# Altium footprint library Narwhal_main_FIX.PcbLib: 27 footprints (part 1 of 2)
Each footprint in its own frame and in the unit in brackets; x right, y up, seen from the top. Pads: shape width x height; smd on the part's side, far side on the other; paste and mask are expansions set on the pad; w line width, h text height; cw(c..) or ccw(c..) is an arc to the next point about the centre after c.
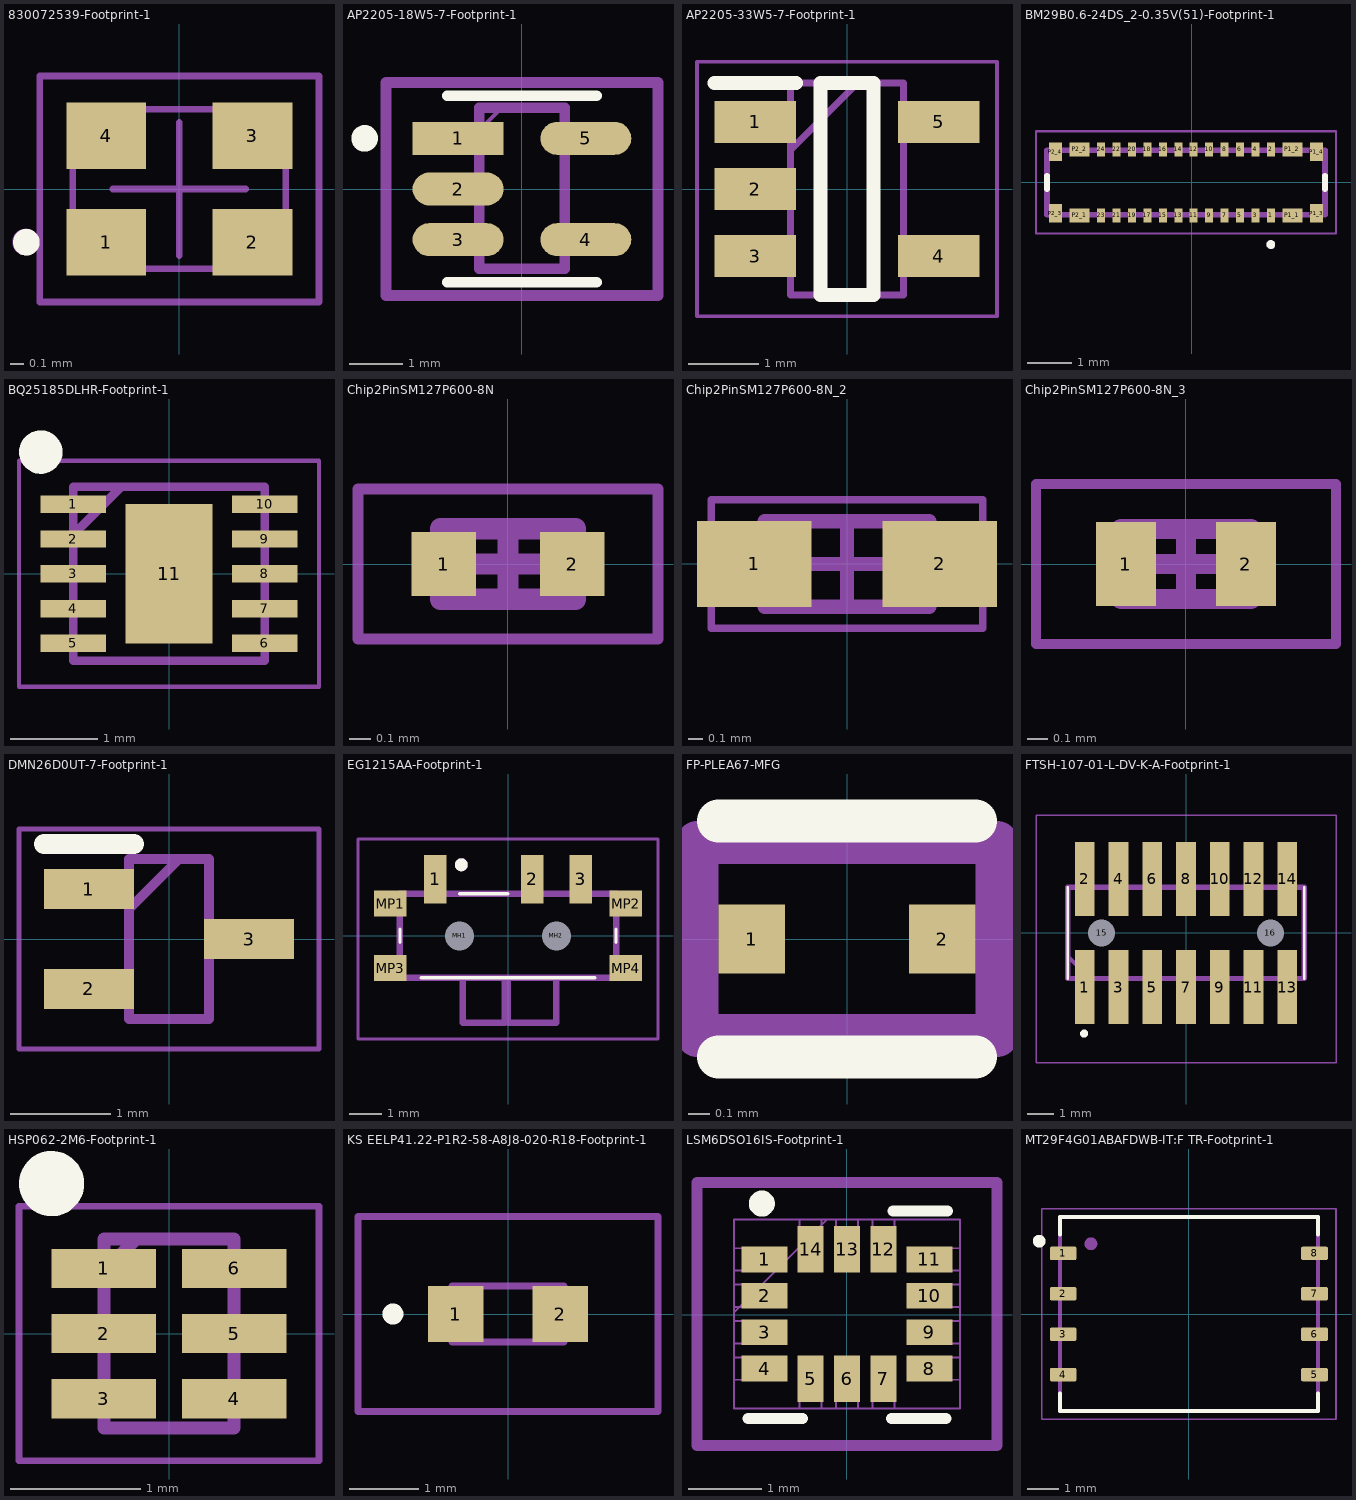
[diagram p0: the footprints below, top view; thin cyan lines are the x and y axes]

## 830072539-Footprint-1 [mm]
pads (4):
  rect 0.6x0.5 smd: 1(-0.55,-0.4) 2(0.55,-0.4) 3(0.55,0.4) 4(-0.55,0.4)
Top Overlay:
  circle w0.1: c-1.15,-0.4 r0.05
Top Assembly:
  circle w0.1: c-1.155,-0.398 r0.05
  lines w0.05: -0.8,-0.6 -0.8,0.6 0.8,0.6 0.8,-0.6 -0.8,-0.6
Top Courtyard:
  lines w0.05: -0.5,0 0.5,0 ; 0,-0.5 0,0.5 ; -1.05,-0.85 -1.05,0.85 1.05,0.85 1.05,-0.85 -1.05,-0.85
Top 3D Body:
  lines w0.05: -0.8,-0.6 -0.8,0.6 0.8,0.6 0.8,-0.6 -0.8,-0.6
Top Designator:
  text ".Designator" at -0.083,1.25 h0.25
3D body "FrqXTAL_IQXC-26.stp": height 0.4, standoff 0, extent -0.8,-0.6 0.8,0.6

## AP2205-18W5-7-Footprint-1 [mm]
pads (5):
  rect 1.707x0.616 smd paste+0 mask+0: 1(-1.201,0.95)
  rrect100% 1.707x0.616 smd paste+0 mask+0: 2(-1.201,0) 3(-1.201,-0.95) 4(1.201,-0.95) 5(1.201,0.95)
Top Overlay:
  circle w0.25: c-2.954,0.95 r0.125
  lines w0.2: -1.4,-1.75 1.4,-1.75 ; -1.4,1.75 1.4,1.75
Top Assembly:
  lines w0.013: -0.762,1.016 -0.762,1.143
  lines w0.076: -0.762,1.143 -0.381,1.524
  lines w0.2: -0.8,-1.5 -0.8,1.524 0.8,1.524 0.8,-1.5 -0.8,-1.5
Top Courtyard:
  lines w0.2: -2.554,-2 2.554,-2 2.554,2 -2.554,2 -2.554,-2
Top Designator:
  text ".Designator" at -1.35,-0.183 h0.25
3D body "IC_Diodes_Inc_AP2127K-3_3TRG1_eec.STEP": height 1.45, standoff 0, extent -1.4,-1.47 1.4,1.45

## AP2205-33W5-7-Footprint-1 [mm]
pads (5):
  rect 1.15x0.6 smd: 1(-1.3,0.95) 2(-1.3,0) 3(-1.3,-0.95) 4(1.3,-0.95) 5(1.3,0.95)
Top Overlay:
  lines w0.2: -1.875,1.5 -0.725,1.5 ; -0.375,-1.5 0.375,-1.5 0.375,1.5 -0.375,1.5 -0.375,-1.5
Top Assembly:
  lines w0.1: -0.8,0.55 0.15,1.5 ; -0.8,-1.5 0.8,-1.5 0.8,1.5 -0.8,1.5 -0.8,-1.5
Top Courtyard:
  lines w0.05: -2.125,-1.8 2.125,-1.8 2.125,1.8 -2.125,1.8 -2.125,-1.8
Top Designator:
  text ".Designator" at -0.25,-0.067 h0.25
3D body "AP2205-33W5-7.stp": height 1.4, standoff 0, extent -1.387,-1.524 1.463,1.476

## BM29B0.6-24DS_2-0.35V(51)-Footprint-1 [mm]
pads (32):
  rect 0.18x0.32 smd mask+0.05: 1(1.798,-0.75) 2(1.798,0.75) 3(1.448,-0.75) 4(1.448,0.75) 5(1.098,-0.75) 6(1.098,0.75) 7(0.748,-0.75) 8(0.748,0.75) 9(0.398,-0.75) 10(0.398,0.75) 11(0.048,-0.75) 12(0.048,0.75) 13(-0.302,-0.75) 14(-0.302,0.75) 15(-0.652,-0.75) 16(-0.652,0.75) 17(-1.002,-0.75) 18(-1.002,0.75) 19(-1.352,-0.75) 20(-1.352,0.75) 21(-1.702,-0.75) 22(-1.702,0.75) 23(-2.052,-0.75) 24(-2.052,0.75)
  rect 0.46x0.32 smd mask+0.05: P1_1(2.288,-0.75) P1_2(2.288,0.75) P2_1(-2.542,-0.75) P2_2(-2.542,0.75)
  rect 0.3x0.42 smd: P1_3(2.838,-0.7) P1_4(2.838,0.7) P2_3(-3.092,-0.7) P2_4(-3.092,0.7)
Top Overlay:
  circle w0.1: c1.798,-1.41 r0.05
  lines w0.127: -3.282,-0.15 -3.282,0.15 ; 3.028,-0.15 3.028,0.15
Top Assembly:
  circle w0.1: c1.798,-1.41 r0.05
  lines w0.127: -3.282,-0.73 -3.282,0.73 3.028,0.73 3.028,-0.73 -3.282,-0.73
Top Courtyard:
  lines w0.05: -3.532,-1.16 3.278,-1.16 3.278,1.16 -3.532,1.16 -3.532,-1.16
Top Designator:
  text ".Designator" at -1.452,0.017 h0.25
3D body "step_temp.STEP": height 0.57, standoff -0.03, extent -3.28,-0.75 3.03,0.75

## BQ25185DLHR-Footprint-1 [mm]
pads (11):
  rect 0.75x0.2 smd: 1(-1.1,0.8) 2(-1.1,0.4) 3(-1.1,0) 4(-1.1,-0.4) 5(-1.1,-0.8) 6(1.1,-0.8) 7(1.1,-0.4) 8(1.1,0) 9(1.1,0.4) 10(1.1,0.8)
  rect 1x1.6 smd: 11(0,0)
Top Overlay:
  circle w0.25: c-1.475,1.4 r0.125
Top Assembly:
  lines w0.1: -1.1,0.45 -0.55,1 ; -1.1,-1 -1.1,1 1.1,1 1.1,-1 -1.1,-1
Top Courtyard:
  lines w0.05: -1.725,-1.3 -1.725,1.3 1.725,1.3 1.725,-1.3 -1.725,-1.3
Top Designator:
  text ".Designator" at 0.083,-1.087 h0.25
3D body "BQ25185DLHR.stp": height 0.8, standoff 0, extent -1.15,-1 1.15,1

## Chip2PinSM127P600-8N [mm]
pads (2):
  rect 0.3x0.3 smd: 1(-0.3,0) 2(0.3,0)
Top Assembly:
  lines w0.1: -0.315,-0.165 0.315,-0.165 0.315,0.165 -0.315,0.165 -0.315,-0.165
Top Courtyard:
  lines w0.05: -0.7,-0.35 0.7,-0.35 0.7,0.35 -0.7,0.35 -0.7,-0.35
  lines w0.1: -0.165,0 0.165,0 ; 0,-0.165 0,0.165
Top Designator:
  text ".Designator" at -1.25,-0.083 h0.25
3D body "Chip2PinSM127P600-8N.step": height 0.26, standoff 0, extent -0.315,-0.165 0.315,0.165

## Chip2PinSM127P600-8N_2 [mm]
pads (2):
  rect 0.8x0.6 smd: 1(-0.65,0) 2(0.65,0)
Top Assembly:
  lines w0.1: -0.575,-0.3 0.575,-0.3 0.575,0.3 -0.575,0.3 -0.575,-0.3
Top Courtyard:
  lines w0.05: -0.95,-0.45 0.95,-0.45 0.95,0.45 -0.95,0.45 -0.95,-0.45
  lines w0.1: -0.3,0 0.3,0 ; 0,-0.3 0,0.3
Top Designator:
  text ".Designator" at -1.25,-0.083 h0.25
3D body "Chip2PinSM127P600-8N.step": height 0.6, standoff 0, extent -0.575,-0.3 0.575,0.3

## Chip2PinSM127P600-8N_3 [mm]
pads (2):
  rect 0.3x0.42 smd: 1(-0.3,0) 2(0.3,0)
Top Assembly:
  lines w0.1: -0.325,-0.175 -0.325,0.175 0.325,0.175 0.325,-0.175 -0.325,-0.175
Top Courtyard:
  lines w0.05: -0.75,-0.4 -0.75,0.4 0.75,0.4 0.75,-0.4 -0.75,-0.4
  lines w0.1: -0.175,0 0.175,0 ; 0,-0.175 0,0.175
Top Designator:
  text ".Designator" at 1.25,0.083 h0.25
3D body "Chip2PinSM127P600-8N.step": height 0.35, standoff 0, extent -0.325,-0.175 0.325,0.175

## DMN26D0UT-7-Footprint-1 [mm]
pads (3):
  rect 0.9x0.4 smd: 1(-0.8,0.5) 2(-0.8,-0.5) 3(0.8,0)
Top Overlay:
  lines w0.2: -1.25,0.95 -0.35,0.95
Top Assembly:
  lines w0.1: -0.4,0.3 0.1,0.8 ; -0.4,-0.8 -0.4,0.8 0.4,0.8 0.4,-0.8 -0.4,-0.8
Top Courtyard:
  lines w0.05: -1.5,-1.1 1.5,-1.1 1.5,1.1 -1.5,1.1 -1.5,-1.1
Top Designator:
  text ".Designator" at -0.083,1.25 h0.25
3D body "DMN26D0UT-7.stp": height 0.9, standoff 0, extent -0.858,-0.835 0.742,0.765

## EG1215AA-Footprint-1 [mm]
pads (9):
  rect 0.7x1.5 smd: 1(-2.25,1.75) 2(0.75,1.75) 3(2.25,1.75)
  round 0.45 hole 0.9 unplated: MH1(-1.5,0) MH2(1.5,0)
  rect 1x0.8 smd: MP1(-3.65,1) MP2(3.65,1) MP3(-3.65,-1) MP4(3.65,-1)
Top Overlay:
  lines w0.1: -3.35,-0.2 -3.35,0.2 ; -2.7,-1.3 2.7,-1.3 ; -1.5,1.3 0,1.3 ; 3.35,-0.2 3.35,0.2
  lines w0.2: -1.45,2.1 cw(c-1.45,2.2) -1.45,2.3 cw(c-1.45,2.2) -1.45,2.1
Top Assembly:
  lines w0.2: -3.35,-1.3 -3.35,1.3 3.35,1.3 3.35,-1.3 -3.35,-1.3 ; -1.439,2.104 cw(c-1.439,2.204) -1.439,2.304 cw(c-1.439,2.204) -1.439,2.104 ; -1.4,-2.7 -1.4,-1.3 -0.1,-1.3 -0.1,-2.7 -1.4,-2.7 ; 0,-2.7 0,-1.3 1.5,-1.3 1.5,-2.7 0,-2.7
Top Courtyard:
  lines w0.1: -4.65,-3.2 -4.65,3 4.65,3 4.65,-3.2 -4.65,-3.2
Top Designator:
  text ".Designator" at 1.353,-0.013 h0.25
3D body "EG1215AA--3DModel-STEP-1.STEP": height 1.4, standoff -0.3, extent -3.85,-2.7 3.85,2.2

## FP-PLEA67-MFG [mm]
pads (2):
  rect 0.31x0.32 smd paste+0 mask+0: 1(-0.445,0) 2(0.445,0)
Top Overlay:
  lines w0.2: -0.6,-0.55 0.6,-0.55 ; -0.6,0.55 0.6,0.55
Top Assembly:
  lines w0.076: -0.7,-0.45 -0.7,0.45 0.7,0.45 0.7,-0.45 -0.7,-0.45
Top Courtyard:
  lines w0.2: -0.7,-0.45 -0.7,0.45 0.7,0.45 0.7,-0.45 -0.7,-0.45
Top Designator:
  text ".Designator" at 0.601,0.005 h0.25
3D body "Ind_TDK_PLEA67BBA2R2M-1PT00_eec.STEP": height 0.8, standoff 0, extent -0.5,-0.3 0.5,0.3

## FTSH-107-01-L-DV-K-A-Footprint-1 [mm]
pads (16):
  rect 0.74x2.79 smd: 1(-3.81,-2.035) 2(-3.81,2.035) 3(-2.54,-2.035) 4(-2.54,2.035) 5(-1.27,-2.035) 6(-1.27,2.035) 7(0,-2.035) 8(0,2.035) 9(1.27,-2.035) 10(1.27,2.035) 11(2.54,-2.035) 12(2.54,2.035) 13(3.81,-2.035) 14(3.81,2.035)
  round 0.51 hole 1.02 unplated: 15(-3.175,0) 16(3.175,0)
Top Overlay:
  circle w0.2: c-3.835,-3.785 r0.05
  lines w0.1: -4.445,-1.715 -4.445,1.715 ; 4.445,-1.715 4.445,1.715
Top Assembly:
  lines w0.15: -4.445,-0.762 -4.445,-0.889 -3.683,-1.651
  lines w0.2: -4.445,-1.715 -4.445,1.715 4.445,1.715 4.445,-1.715 -4.445,-1.715
Top Courtyard:
  lines w0.05: -5.645,-4.885 5.645,-4.885 5.645,4.43 -5.645,4.43 -5.645,-4.885
Top Designator:
  text ".Designator" at -1.25,-0.311 h0.25
3D body "2081478.stp": height 6.1, standoff -0.88, extent -4.445,-2.921 4.445,2.921

## HSP062-2M6-Footprint-1 [mm]
pads (6):
  rect 0.8x0.3 smd: 1(-0.5,0.5) 2(-0.5,0) 3(-0.5,-0.5) 4(0.5,-0.5) 5(0.5,0) 6(0.5,0.5)
Top Overlay:
  circle w0.25: c-0.9,1.15 r0.125
Top Assembly:
  lines w0.1: -0.5,0.475 -0.25,0.725 ; -0.5,-0.725 0.5,-0.725 0.5,0.725 -0.5,0.725 -0.5,-0.725
Top Courtyard:
  lines w0.05: -1.15,-0.975 1.15,-0.975 1.15,0.975 -1.15,0.975 -1.15,-0.975
Top Designator:
  text ".Designator" at -1.25,0.117 h0.25
3D body "HSP062-2M6.stp": height 0.6, standoff 0, extent -0.55,-0.725 0.55,0.725

## KS EELP41.22-P1R2-58-A8J8-020-R18-Footprint-1 [mm]
pads (2):
  rect 0.8x0.8 smd: 1(-0.75,0) 2(0.75,0)
Top Overlay:
  lines w0.2: -1.7,0 ccw(c-1.65,0) -1.6,0 ; -1.7,0 cw(c-1.65,0) -1.6,0 ; -1.7,0 ccw(c-1.65,0) -1.6,0
Top Assembly:
  lines w0.1: -0.8,-0.4 -0.8,0.4 0.8,0.4 0.8,-0.4 -0.8,-0.4
Top Courtyard:
  lines w0.1: -2.15,-1.4 -2.15,1.4 2.15,1.4 2.15,-1.4 -2.15,-1.4
Top Designator:
  text ".Designator" at -1.25,-0.083 h0.25
3D body "KS_EELP41.22-P1R2-58-A8J8-020-R18.stp": height 0.6, standoff 0, extent -0.8,-0.4 0.8,0.4

## LSM6DSO16IS-Footprint-1 [mil]
pads (14):
  rect 25x14 smd paste+0 mask+4: 1(-44.49,29.9) 2(-44.49,10.21) 3(-44.49,-9.48) 4(-44.49,-29.17) 8(44.51,-29.17) 9(44.51,-9.48) 10(44.51,10.21) 11(44.51,29.9)
  rect 14x25 smd paste+0 mask+4: 5(-19.68,-34.64) 6(0.01,-34.64) 7(19.7,-34.64) 12(19.7,35.36) 13(0.01,35.36) 14(-19.68,35.36)
Top Overlay:
  circle w10: c-46,60 r2
  lines w6: -53.34,-56 -24,-56 ; 24,-56 53.34,-56 ; 25,56 54.34,56
Top Assembly:
  lines w1: -60.99,1.36 -10.99,51.36 ; -60.99,-50.64 61.01,-50.64 61.01,51.36 -60.99,51.36 -60.99,-50.64 ; -60.99,-35.17 -60.99,-23.17 -54.99,-23.17 -54.99,-35.17 -60.99,-35.17 ; -60.99,-15.48 -54.99,-15.48 -54.99,-3.48 -60.99,-3.48 -60.99,-15.48 ; -60.99,4.21 -60.99,16.21 -54.99,16.21 -54.99,4.21 -60.99,4.21 ; -60.99,23.9 -54.99,23.9 -54.99,35.9 -60.99,35.9 -60.99,23.9 ; -25.68,-50.64 -25.68,-45.14 -13.68,-45.14 -13.68,-50.64 -25.68,-50.64 ; -25.68,45.86 -25.68,51.36 -13.68,51.36 -13.68,45.86 -25.68,45.86 ; -5.99,-50.64 -5.99,-45.14 6.01,-45.14 6.01,-50.64 -5.99,-50.64 ; -5.99,45.86 -5.99,51.36 6.01,51.36 6.01,45.86 -5.99,45.86 ; 13.7,-50.64 13.7,-45.14 25.7,-45.14 25.7,-50.64 13.7,-50.64 ; 13.7,45.86 13.7,51.36 25.7,51.36 25.7,45.86 13.7,45.86 ; 55.01,-35.17 55.01,-23.17 61.01,-23.17 61.01,-35.17 55.01,-35.17 ; 55.01,-15.48 55.01,-3.48 61.01,-3.48 61.01,-15.48 55.01,-15.48 ; 55.01,4.21 55.01,16.21 61.01,16.21 61.01,4.21 55.01,4.21 ; 55.01,23.9 55.01,35.9 61.01,35.9 61.01,23.9 55.01,23.9
Top Courtyard:
  lines w6: -80.99,-70.64 -80.99,-56.17 -80.99,56.9 -80.99,71.36 -46.68,71.36 46.7,71.36 81.01,71.36 81.01,56.9 81.01,-56.17 81.01,-70.64 46.7,-70.64 -46.68,-70.64 -80.99,-70.64
Top Designator:
  text ".Designator" at -3.46,-48.83 h9.84
3D body "LGA14_LSM6_STM.step": height 34.09, standoff 0, extent -60.98,-50.62 60.99,51.35

## MT29F4G01ABAFDWB-IT:F TR-Footprint-1 [mm]
pads (8):
  rrect25% 0.84x0.42 smd: 1(-3.945,1.905) 2(-3.945,0.635) 3(-3.945,-0.635) 4(-3.945,-1.905) 5(3.945,-1.905) 6(3.945,-0.635) 7(3.945,0.635) 8(3.945,1.905)
Top Overlay:
  circle w0.2: c-4.699,2.286 r0.1
  lines w0.127: -4.05,-2.5 -4.05,-3.05 4.05,-3.05 4.05,-2.5 ; -4.05,2.5 -4.05,3.05 4.05,3.05 4.05,2.5
Top Assembly:
  circle w0.2: c-3.075,2.205 r0.1
  lines w0.127: -4.05,-3.05 4.05,-3.05 4.05,3.05 -4.05,3.05 -4.05,-3.05
Top Courtyard:
  lines w0.05: -4.62,-3.3 -4.62,3.3 4.62,3.3 4.62,-3.3 -4.62,-3.3
Top Designator:
  text ".Designator" at -1.55,-0.083 h0.25
3D body "step_temp.STEP": height 0.65, standoff 0, extent -4,-3 4,3